# EAGLE library part MCP4551 (library Potentiometer Digital)
Name des Bauteiles: -->MCP4551 Daten:Single or Dual Resistor Network Options • Potentiometer or Rheostat Configuration Options • Resistor Network Resolution - 7-bit: 128 Resistors (129 Steps) - 8-bit: 256 Resistors (257 Steps) • RAB Resistances Options of: - 5kW - 10kW - 50kW - 100kW • Zero-Scale to Full-Scale Wiper Operation • Low Wiper Resistance: 75W (typical) • Low Tempco: - Absolute (Rheostat): 50 ppm typical (0°C to 70°C) - Ratiometric (Potentiometer): 15 ppm typical • I2C Serial Interface - 100 kHz, 400 kHz and 3.4 MHz Support • Serial Protocol Allows: - High-Speed Read/Write to Wiper - Increment/Decrement of Wiper • Resistor Network Terminal Disconnect Feature via the Terminal Control (TCON) Register • Brown-Out Reset Protection (1.5V typical) • Serial Interface Inactive Current (2.5 uA typical) • High-Voltage Tolerant Digital Inputs: up to 12.5V • Wide Operating Voltage: - 2.7V to 5.5V - Device Characteristics Specified - 1.8V to 5.5V - Device Operation • Wide Bandwidth (-3dB) Operation: - 2 MHz (typical) for 5.0 kW Device • Extended Temperature Range (-40°C to +125°C) Artikelnummer:#keine feste Artikelnummer vorhanden / Atikel nicht lagermäßig vorhanden! Datenblatt:www.alldatasheet.com __________________________________________ generated by Eagle Description Tool am : 07.04.2014 07:33:58 erstellt von: hm
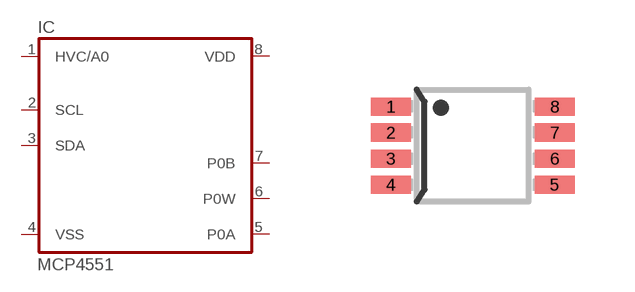
[diagram p1: symbol with the pads of MSOP8; footprint MSOP8]

Designator prefix IC

## MCP4551103E/MS  [MSOP8]
1  HVC/A0  in
2  SCL  in
3  SDA
4  VSS  pwr
5  P0A  pas
6  P0W  pas
7  P0B  pas
8  VDD  pwr

## Footprint MSOP8 (pad centres in mm)
smd 1 x 0.45: 1 -2.05,0.975; 2 -2.05,0.325; 3 -2.05,-0.325; 4 -2.05,-0.975; 5 2.05,-0.975; 6 2.05,-0.325; 7 2.05,0.325; 8 2.05,0.975